# Altium schematic symbol library arthurbenemann-Atmel.SchLib: 651 symbols (part 1 of 28)
Pins are listed as number, name and electrical type; pins without a type are passive.

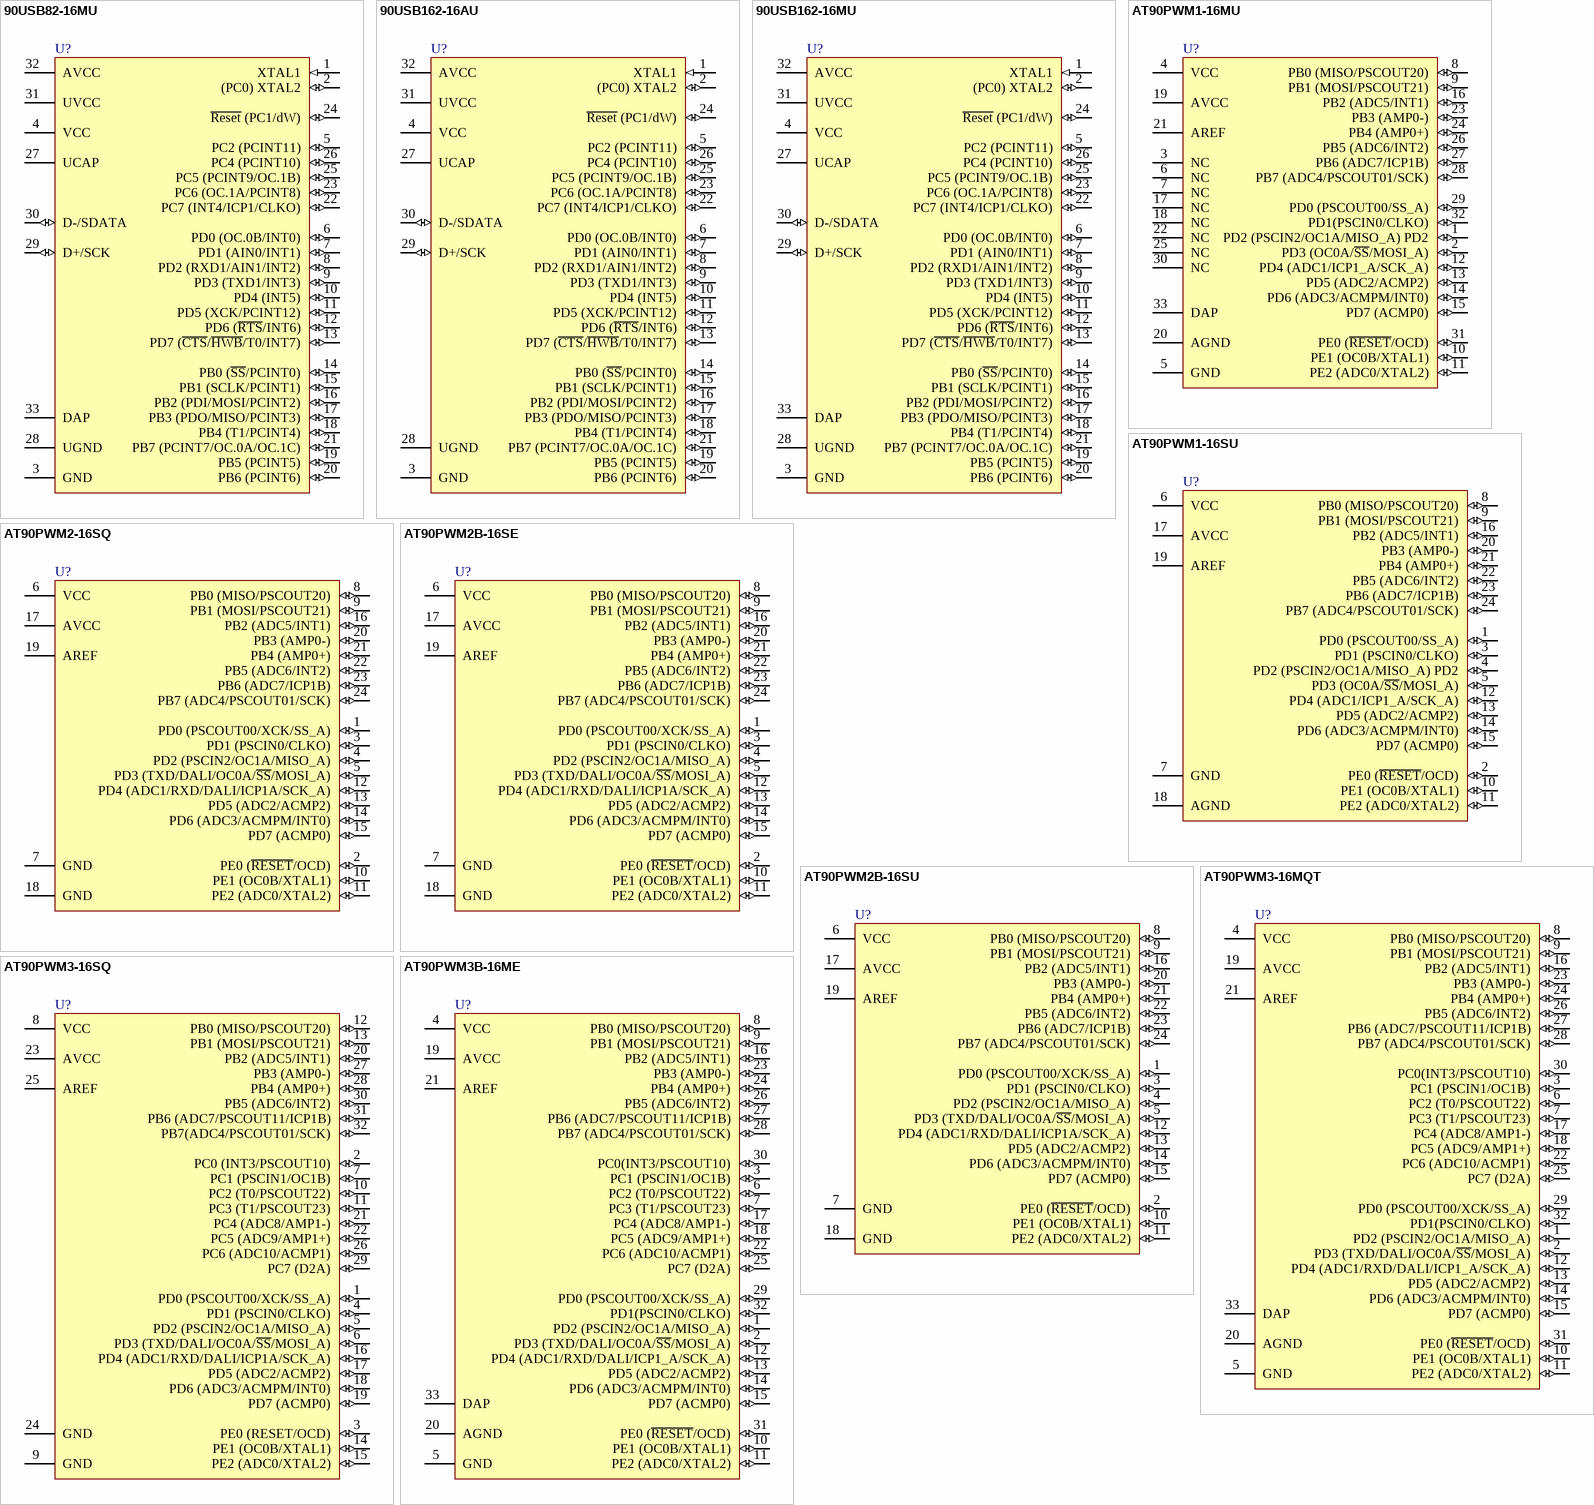
[diagram p0: symbols 90USB82-16MU to AT90PWM3B-16ME]

## 90USB82-16MU
designator U?
8-bit AVR Microcontroller, 2.7-5.5V, 8KB Flash, 512 Bytes EEPROM, 512 Bytes SRAM, USB Controller, 32-pin VQFN, Industrial Grade (-40°C to 85°C); DatasheetVersion: revF, Nov-2010; PackageVersion: 2007; PackageReference: 32-QFN; PackageDescription: 32-Pin Quad Flat No-Lead, 5 x 5 mm Body,  0.5 mm Pitch; ComponentLink1Description: Manufacturer URL; ComponentLink1URL: http://www.atmel.com/; ComponentLink2Description: AT90USB82/162 Datasheet; ComponentLink2URL: http://www.atmel.com/dyn/resources/prod_documents/doc7707.pdf
footprint 32-QFN_N (QFN, 32-Leads, Body 5x5mm, Pitch 0.5mm, Thermal Pad 3.7x3.7mm, IPC Medium Density)
footprint 32-QFN_L (QFN, 32-Leads, Body 5x5mm, Pitch 0.5mm, Thermal Pad 3.7x3.7mm, IPC High Density)
footprint 32-QFN_M (QFN, 32-Leads, Body 5x5mm, Pitch 0.5mm, Thermal Pad 3.7x3.7mm, IPC Low Density)
pins: 1 XTAL1 (in), 2 (PC0) XTAL2 (io), 3 GND (power), 4 VCC (power), 5 PC2 (PCINT11) (io), 6 PD0 (OC.0B/INT0) (io), 7 PD1 (AIN0/INT1) (io), 8 PD2 (RXD1/AIN1/INT2) (io), 9 PD3 (TXD1/INT3) (io), 10 PD4 (INT5) (io), 11 PD5 (XCK/PCINT12) (io), 12 PD6 (~{RTS}/INT6) (io), 13 PD7 (~{CTS}/~{HWB}/T0/INT7) (io), 14 PB0 (~{SS}/PCINT0) (io), 15 PB1 (SCLK/PCINT1) (io), 16 PB2 (PDI/MOSI/PCINT2) (io), 17 PB3 (PDO/MISO/PCINT3) (io), 18 PB4 (T1/PCINT4) (io), 19 PB5 (PCINT5) (io), 20 PB6 (PCINT6) (io), 21 PB7 (PCINT7/OC.0A/OC.1C) (io), 22 PC7 (INT4/ICP1/CLKO) (io), 23 PC6 (OC.1A/PCINT8) (io), 24 ~{Reset} (PC1/dW) (io), 25 PC5 (PCINT9/OC.1B) (io), 26 PC4 (PCINT10) (io), 27 UCAP (power), 28 UGND (power), 29 D+/SCK (io), 30 D-/SDATA (io), 31 UVCC (power), 32 AVCC (power), 33 DAP (power)

## 90USB162-16AU
designator U?
8-bit AVR Microcontroller, 2.7-5.5V, 16KB Flash, 512 Bytes EEPROM, 512 Bytes SRAM, USB Controller, 32-pin TQFP, Industrial Grade (-40°C to 85°C); DatasheetVersion: revF, Nov-2010; PackageVersion: revB, Jul-2007; PackageReference: 32MA; PackageDescription: 32-Lead Thin Profile Plastic Quad Flatpack (TQFP) - 7x7x1mm Body,  0.8 mm Pitch; ComponentLink1Description: Manufacturer URL; ComponentLink1URL: http://www.atmel.com/; ComponentLink2Description: AT90USB82/162 Datasheet; ComponentLink2URL: http://www.atmel.com/dyn/resources/prod_documents/doc7707.pdf
footprint 32MA_N (Thin QFP, 32-Leads, Body 7x7mm, Pitch 0.8mm, IPC Medium Density)
footprint 32MA_L (Thin QFP, 32-Leads, Body 7x7mm, Pitch 0.8mm, IPC High Density)
footprint 32MA_M (Thin QFP, 32-Leads, Body 7x7mm, Pitch 0.8mm, IPC Low Density)
pins: 1 XTAL1 (in), 2 (PC0) XTAL2 (io), 3 GND (power), 4 VCC (power), 5 PC2 (PCINT11) (io), 6 PD0 (OC.0B/INT0) (io), 7 PD1 (AIN0/INT1) (io), 8 PD2 (RXD1/AIN1/INT2) (io), 9 PD3 (TXD1/INT3) (io), 10 PD4 (INT5) (io), 11 PD5 (XCK/PCINT12) (io), 12 PD6 (~{RTS}/INT6) (io), 13 PD7 (~{CTS}/~{HWB}/T0/INT7) (io), 14 PB0 (~{SS}/PCINT0) (io), 15 PB1 (SCLK/PCINT1) (io), 16 PB2 (PDI/MOSI/PCINT2) (io), 17 PB3 (PDO/MISO/PCINT3) (io), 18 PB4 (T1/PCINT4) (io), 19 PB5 (PCINT5) (io), 20 PB6 (PCINT6) (io), 21 PB7 (PCINT7/OC.0A/OC.1C) (io), 22 PC7 (INT4/ICP1/CLKO) (io), 23 PC6 (OC.1A/PCINT8) (io), 24 ~{Reset} (PC1/dW) (io), 25 PC5 (PCINT9/OC.1B) (io), 26 PC4 (PCINT10) (io), 27 UCAP (power), 28 UGND (power), 29 D+/SCK (io), 30 D-/SDATA (io), 31 UVCC (power), 32 AVCC (power)

## 90USB162-16MU
designator U?
8-bit AVR Microcontroller, 2.7-5.5V, 16KB Flash, 512 Bytes EEPROM, 512 Bytes SRAM, USB Controller, 32-pin VQFN, Industrial Grade (-40°C to 85°C); DatasheetVersion: revF, Nov-2010; PackageVersion: 2007; PackageReference: 32-QFN; PackageDescription: 32-Pin Quad Flat No-Lead, 5 x 5 mm Body,  0.5 mm Pitch; ComponentLink1Description: Manufacturer URL; ComponentLink1URL: http://www.atmel.com/; ComponentLink2Description: AT90USB82/162 Datasheet; ComponentLink2URL: http://www.atmel.com/dyn/resources/prod_documents/doc7707.pdf
footprint 32-QFN_N (QFN, 32-Leads, Body 5x5mm, Pitch 0.5mm, Thermal Pad 3.7x3.7mm, IPC Medium Density)
footprint 32-QFN_L (QFN, 32-Leads, Body 5x5mm, Pitch 0.5mm, Thermal Pad 3.7x3.7mm, IPC High Density)
footprint 32-QFN_M (QFN, 32-Leads, Body 5x5mm, Pitch 0.5mm, Thermal Pad 3.7x3.7mm, IPC Low Density)
pins: 1 XTAL1 (in), 2 (PC0) XTAL2 (io), 3 GND (power), 4 VCC (power), 5 PC2 (PCINT11) (io), 6 PD0 (OC.0B/INT0) (io), 7 PD1 (AIN0/INT1) (io), 8 PD2 (RXD1/AIN1/INT2) (io), 9 PD3 (TXD1/INT3) (io), 10 PD4 (INT5) (io), 11 PD5 (XCK/PCINT12) (io), 12 PD6 (~{RTS}/INT6) (io), 13 PD7 (~{CTS}/~{HWB}/T0/INT7) (io), 14 PB0 (~{SS}/PCINT0) (io), 15 PB1 (SCLK/PCINT1) (io), 16 PB2 (PDI/MOSI/PCINT2) (io), 17 PB3 (PDO/MISO/PCINT3) (io), 18 PB4 (T1/PCINT4) (io), 19 PB5 (PCINT5) (io), 20 PB6 (PCINT6) (io), 21 PB7 (PCINT7/OC.0A/OC.1C) (io), 22 PC7 (INT4/ICP1/CLKO) (io), 23 PC6 (OC.1A/PCINT8) (io), 24 ~{Reset} (PC1/dW) (io), 25 PC5 (PCINT9/OC.1B) (io), 26 PC4 (PCINT10) (io), 27 UCAP (power), 28 UGND (power), 29 D+/SCK (io), 30 D-/SDATA (io), 31 UVCC (power), 32 AVCC (power), 33 DAP (power)

## AT90PWM1-16MU
designator U?
8-bit AVR Microcontroller, 2.7-5.5V, 8KB Flash, 512 Bytes EEPROM, 512 Bytes SRAM, 32-pin QFN, Extended Grade (-40°C to 105°C), Pb-Free; DatasheetVersion: revC, Sep-2008; PackageVersion: 2011; PackageReference: QFN32; PackageDescription: 32-Pin Quad Flat No-Lead, 7 x 7 mm Body, 0.65 mm Pitch; Code_JEDEC: MO-220VKKC; Code_IPC: QFN65P700X700-32V; ComponentLink1Description: Manufacturer URL; ComponentLink1URL: http://www.atmel.com/; ComponentLink2Description: AT90PWM1 Datasheet; ComponentLink2URL: http://www.atmel.com/dyn/resources/prod_documents/doc4378.pdf; ComponentLink3Description: AT90PWM1 Summary; ComponentLink3URL: http://www.atmel.com/dyn/resources/prod_documents/4378S.pdf
footprint QFN32_N (QFN, 32-Leads, Body 7x7mm, Pitch 0.65mm, Thermal Pad 5.3x5.3mm, IPC Medium Density)
footprint QFN32_L (QFN, 32-Leads, Body 7x7mm, Pitch 0.65mm, Thermal Pad 5.3x5.3mm, IPC High Density)
footprint QFN32_M (QFN, 32-Leads, Body 7x7mm, Pitch 0.65mm, Thermal Pad 5.3x5.3mm, IPC Low Density)
pins: 1 PD2 (PSCIN2/OC1A/MISO_A) PD2 (io), 2 PD3 (OC0A/~{SS}/MOSI_A) (io), 3 NC, 4 VCC (power), 5 GND (power), 6 NC, 7 NC, 8 PB0 (MISO/PSCOUT20) (io), 9 PB1 (MOSI/PSCOUT21) (io), 10 PE1 (OC0B/XTAL1) (io), 11 PE2 (ADC0/XTAL2) (io), 12 PD4 (ADC1/ICP1_A/SCK_A) (io), 13 PD5 (ADC2/ACMP2) (io), 14 PD6 (ADC3/ACMPM/INT0) (io), 15 PD7 (ACMP0) (io), 16 PB2 (ADC5/INT1) (io), 17 NC, 18 NC, 19 AVCC (power), 20 AGND (power), 21 AREF (power), 22 NC, 23 PB3 (AMP0-) (io), 24 PB4 (AMP0+) (io), 25 NC, 26 PB5 (ADC6/INT2) (io), 27 PB6 (ADC7/ICP1B) (io), 28 PB7 (ADC4/PSCOUT01/SCK) (io), 29 PD0 (PSCOUT00/SS_A) (io), 30 NC, 31 PE0 (~{RESET}/OCD) (io), 32 PD1(PSCIN0/CLKO) (io), 33 DAP (power)

## AT90PWM1-16SU
designator U?
8-bit AVR Microcontroller, 2.7-5.5V, 8KB Flash, 512 Bytes EEPROM, 512 Bytes SRAM, 24-pin SOIC (TD), Extended Grade (-40°C to 105°C), Pb-Free; DatasheetVersion: revC, Sep-2008; PackageVersion: revA, Jul-2007; PackageReference: SO24; PackageDescription: 24-Pin Plastic Gull Wing Small Outline Package (SOIC) 0.3" Wide, 1.27 mm Pitch [TD]; ComponentLink1Description: Manufacturer URL; ComponentLink1URL: http://www.atmel.com/; ComponentLink2Description: AT90PWM1 Datasheet; ComponentLink2URL: http://www.atmel.com/dyn/resources/prod_documents/doc4378.pdf; ComponentLink3Description: AT90PWM1 Summary; ComponentLink3URL: http://www.atmel.com/dyn/resources/prod_documents/4378S.pdf
footprint SO24_N (SOIC, 24-Leads, Body 15.4x7.5mm, Pitch 1.27mm, IPC Medium Density)
footprint SO24_L (SOIC, 24-Leads, Body 15.4x7.5mm, Pitch 1.27mm, IPC High Density)
footprint SO24_M (SOIC, 24-Leads, Body 15.4x7.5mm, Pitch 1.27mm, IPC Low Density)
pins: 1 PD0 (PSCOUT00/SS_A) (io), 2 PE0 (~{RESET}/OCD) (io), 3 PD1 (PSCIN0/CLKO) (io), 4 PD2 (PSCIN2/OC1A/MISO_A) PD2 (io), 5 PD3 (OC0A/~{SS}/MOSI_A) (io), 6 VCC (power), 7 GND (power), 8 PB0 (MISO/PSCOUT20) (io), 9 PB1 (MOSI/PSCOUT21) (io), 10 PE1 (OC0B/XTAL1) (io), 11 PE2 (ADC0/XTAL2) (io), 12 PD4 (ADC1/ICP1_A/SCK_A) (io), 13 PD5 (ADC2/ACMP2) (io), 14 PD6 (ADC3/ACMPM/INT0) (io), 15 PD7 (ACMP0) (io), 16 PB2 (ADC5/INT1) (io), 17 AVCC (power), 18 AGND (power), 19 AREF (power), 20 PB3 (AMP0-) (io), 21 PB4 (AMP0+) (io), 22 PB5 (ADC6/INT2) (io), 23 PB6 (ADC7/ICP1B) (io), 24 PB7 (ADC4/PSCOUT01/SCK) (io)

## AT90PWM2-16SQ
designator U?
8-bit AVR Microcontroller, 8KB Flash, 512 Bytes EEPROM, 512 Bytes SRAM, 24-pin SOP, Extended Grade (-40°C to 105°C); DatasheetVersion: revJ, Aug-2010; PackageVersion: revA, Jul-2007; PackageReference: SO24; PackageDescription: 24-Pin Plastic Gull Wing Small Outline Package (SOIC) 0.3" Wide, 1.27 mm Pitch [TD]; ComponentLink1Description: Manufacturer URL; ComponentLink1URL: http://www.atmel.com/; ComponentLink2Description: AT90PWM2/2B/3/3B Datasheet; ComponentLink2URL: http://www.atmel.com/dyn/resources/prod_documents/doc4317.pdf; ComponentLink3Description: AT90PWM2/2B/3/3B Summary; ComponentLink3URL: http://www.atmel.com/dyn/resources/prod_documents/4317S.pdf
footprint SO24_N (SOIC, 24-Leads, Body 15.4x7.5mm, Pitch 1.27mm, IPC Medium Density)
footprint SO24_L (SOIC, 24-Leads, Body 15.4x7.5mm, Pitch 1.27mm, IPC High Density)
footprint SO24_M (SOIC, 24-Leads, Body 15.4x7.5mm, Pitch 1.27mm, IPC Low Density)
pins: 1 PD0 (PSCOUT00/XCK/SS_A) (io), 2 PE0 (~{RESET}/OCD) (io), 3 PD1 (PSCIN0/CLKO) (io), 4 PD2 (PSCIN2/OC1A/MISO_A) (io), 5 PD3 (TXD/DALI/OC0A/~{SS}/MOSI_A) (io), 6 VCC (power), 7 GND (power), 8 PB0 (MISO/PSCOUT20) (io), 9 PB1 (MOSI/PSCOUT21) (io), 10 PE1 (OC0B/XTAL1) (io), 11 PE2 (ADC0/XTAL2) (io), 12 PD4 (ADC1/RXD/DALI/ICP1A/SCK_A) (io), 13 PD5 (ADC2/ACMP2) (io), 14 PD6 (ADC3/ACMPM/INT0) (io), 15 PD7 (ACMP0) (io), 16 PB2 (ADC5/INT1) (io), 17 AVCC (power), 18 GND (power), 19 AREF (power), 20 PB3 (AMP0-) (io), 21 PB4 (AMP0+) (io), 22 PB5 (ADC6/INT2) (io), 23 PB6 (ADC7/ICP1B) (io), 24 PB7 (ADC4/PSCOUT01/SCK) (io)

## AT90PWM2B-16SE
designator U?
8-bit AVR Microcontroller, 8KB Flash, 512 Bytes EEPROM, 512 Bytes SRAM, 24-pin SOP, Engineering Sample; DatasheetVersion: revJ, Aug-2010; PackageVersion: revA, Jul-2007; PackageReference: SO24; PackageDescription: 24-Pin Plastic Gull Wing Small Outline Package (SOIC) 0.3" Wide, 1.27 mm Pitch [TD]; ComponentLink1Description: Manufacturer URL; ComponentLink1URL: http://www.atmel.com/; ComponentLink2Description: AT90PWM2/2B/3/3B Datasheet; ComponentLink2URL: http://www.atmel.com/dyn/resources/prod_documents/doc4317.pdf; ComponentLink3Description: AT90PWM2/2B/3/3B Summary; ComponentLink3URL: http://www.atmel.com/dyn/resources/prod_documents/4317S.pdf
footprint SO24_N (SOIC, 24-Leads, Body 15.4x7.5mm, Pitch 1.27mm, IPC Medium Density)
footprint SO24_L (SOIC, 24-Leads, Body 15.4x7.5mm, Pitch 1.27mm, IPC High Density)
footprint SO24_M (SOIC, 24-Leads, Body 15.4x7.5mm, Pitch 1.27mm, IPC Low Density)
pins: 1 PD0 (PSCOUT00/XCK/SS_A) (io), 2 PE0 (~{RESET}/OCD) (io), 3 PD1 (PSCIN0/CLKO) (io), 4 PD2 (PSCIN2/OC1A/MISO_A) (io), 5 PD3 (TXD/DALI/OC0A/~{SS}/MOSI_A) (io), 6 VCC (power), 7 GND (power), 8 PB0 (MISO/PSCOUT20) (io), 9 PB1 (MOSI/PSCOUT21) (io), 10 PE1 (OC0B/XTAL1) (io), 11 PE2 (ADC0/XTAL2) (io), 12 PD4 (ADC1/RXD/DALI/ICP1A/SCK_A) (io), 13 PD5 (ADC2/ACMP2) (io), 14 PD6 (ADC3/ACMPM/INT0) (io), 15 PD7 (ACMP0) (io), 16 PB2 (ADC5/INT1) (io), 17 AVCC (power), 18 GND (power), 19 AREF (power), 20 PB3 (AMP0-) (io), 21 PB4 (AMP0+) (io), 22 PB5 (ADC6/INT2) (io), 23 PB6 (ADC7/ICP1B) (io), 24 PB7 (ADC4/PSCOUT01/SCK) (io)

## AT90PWM2B-16SU
designator U?
8-bit AVR Microcontroller, 8KB Flash, 512 Bytes EEPROM, 512 Bytes SRAM, 24-pin SOP, Extended Grade (-40°C to 105°C); DatasheetVersion: revJ, Aug-2010; PackageVersion: revA, Jul-2007; PackageReference: SO24; PackageDescription: 24-Pin Plastic Gull Wing Small Outline Package (SOIC) 0.3" Wide, 1.27 mm Pitch [TD]; ComponentLink1Description: Manufacturer URL; ComponentLink1URL: http://www.atmel.com/; ComponentLink2Description: AT90PWM2/2B/3/3B Datasheet; ComponentLink2URL: http://www.atmel.com/dyn/resources/prod_documents/doc4317.pdf; ComponentLink3Description: AT90PWM2/2B/3/3B Summary; ComponentLink3URL: http://www.atmel.com/dyn/resources/prod_documents/4317S.pdf
footprint SO24_N (SOIC, 24-Leads, Body 15.4x7.5mm, Pitch 1.27mm, IPC Medium Density)
footprint SO24_L (SOIC, 24-Leads, Body 15.4x7.5mm, Pitch 1.27mm, IPC High Density)
footprint SO24_M (SOIC, 24-Leads, Body 15.4x7.5mm, Pitch 1.27mm, IPC Low Density)
pins: 1 PD0 (PSCOUT00/XCK/SS_A) (io), 2 PE0 (~{RESET}/OCD) (io), 3 PD1 (PSCIN0/CLKO) (io), 4 PD2 (PSCIN2/OC1A/MISO_A) (io), 5 PD3 (TXD/DALI/OC0A/~{SS}/MOSI_A) (io), 6 VCC (power), 7 GND (power), 8 PB0 (MISO/PSCOUT20) (io), 9 PB1 (MOSI/PSCOUT21) (io), 10 PE1 (OC0B/XTAL1) (io), 11 PE2 (ADC0/XTAL2) (io), 12 PD4 (ADC1/RXD/DALI/ICP1A/SCK_A) (io), 13 PD5 (ADC2/ACMP2) (io), 14 PD6 (ADC3/ACMPM/INT0) (io), 15 PD7 (ACMP0) (io), 16 PB2 (ADC5/INT1) (io), 17 AVCC (power), 18 GND (power), 19 AREF (power), 20 PB3 (AMP0-) (io), 21 PB4 (AMP0+) (io), 22 PB5 (ADC6/INT2) (io), 23 PB6 (ADC7/ICP1B) (io), 24 PB7 (ADC4/PSCOUT01/SCK) (io)

## AT90PWM3-16MQT
designator U?
8-bit AVR Microcontroller, 8KB Flash, 512 Bytes EEPROM, 512 Bytes SRAM, 32-pin QFN, Extended Grade (-40°C to 105°C); DatasheetVersion: revJ, Aug-2010; PackageVersion: 2011; PackageReference: QFN32; PackageDescription: 32-Pin Quad Flat No-Lead, 7 x 7 mm Body, 0.65 mm Pitch; Code_JEDEC: MO-220VKKC; Code_IPC: QFN65P700X700-32V; ComponentLink1Description: Manufacturer URL; ComponentLink1URL: http://www.atmel.com/; ComponentLink2Description: AT90PWM2/2B/3/3B Datasheet; ComponentLink2URL: http://www.atmel.com/dyn/resources/prod_documents/doc4317.pdf; ComponentLink3Description: AT90PWM2/2B/3/3B Summary; ComponentLink3URL: http://www.atmel.com/dyn/resources/prod_documents/4317S.pdf
footprint QFN32_N (QFN, 32-Leads, Body 7x7mm, Pitch 0.65mm, Thermal Pad 5.3x5.3mm, IPC Medium Density)
footprint QFN32_L (QFN, 32-Leads, Body 7x7mm, Pitch 0.65mm, Thermal Pad 5.3x5.3mm, IPC High Density)
footprint QFN32_M (QFN, 32-Leads, Body 7x7mm, Pitch 0.65mm, Thermal Pad 5.3x5.3mm, IPC Low Density)
pins: 1 PD2 (PSCIN2/OC1A/MISO_A) (io), 2 PD3 (TXD/DALI/OC0A/~{SS}/MOSI_A) (io), 3 PC1 (PSCIN1/OC1B) (io), 4 VCC (power), 5 GND (power), 6 PC2 (T0/PSCOUT22) (io), 7 PC3 (T1/PSCOUT23) (io), 8 PB0 (MISO/PSCOUT20) (io), 9 PB1 (MOSI/PSCOUT21) (io), 10 PE1 (OC0B/XTAL1) (io), 11 PE2 (ADC0/XTAL2) (io), 12 PD4 (ADC1/RXD/DALI/ICP1_A/SCK_A) (io), 13 PD5 (ADC2/ACMP2) (io), 14 PD6 (ADC3/ACMPM/INT0) (io), 15 PD7 (ACMP0) (io), 16 PB2 (ADC5/INT1) (io), 17 PC4 (ADC8/AMP1-) (io), 18 PC5 (ADC9/AMP1+) (io), 19 AVCC (power), 20 AGND (power), 21 AREF (power), 22 PC6 (ADC10/ACMP1) (io), 23 PB3 (AMP0-) (io), 24 PB4 (AMP0+) (io), 25 PC7 (D2A) (io), 26 PB5 (ADC6/INT2) (io), 27 PB6 (ADC7/PSCOUT11/ICP1B) (io), 28 PB7 (ADC4/PSCOUT01/SCK) (io), 29 PD0 (PSCOUT00/XCK/SS_A) (io), 30 PC0(INT3/PSCOUT10) (io), 31 PE0 (~{RESET}/OCD) (io), 32 PD1(PSCIN0/CLKO) (io), 33 DAP (power)

## AT90PWM3-16SQ
designator U?
8-bit AVR Microcontroller, 8KB Flash, 512 Bytes EEPROM, 512 Bytes SRAM, 32-pin SOP, Extended Grade (-40°C to 105°C); DatasheetVersion: revJ, Aug-2010; PackageVersion: revA, Jul-2007; PackageReference: SO32; PackageDescription: 32-Pin Plastic Gull Wing Small Outline Package (SOIC) 0.3" Wide, 1.27 mm Pitch [T4]; Code_IPC: IPC-7353; ComponentLink1Description: Manufacturer URL; ComponentLink1URL: http://www.atmel.com/; ComponentLink2Description: AT90PWM2/2B/3/3B Datasheet; ComponentLink2URL: http://www.atmel.com/dyn/resources/prod_documents/doc4317.pdf; ComponentLink3Description: AT90PWM2/2B/3/3B Summary; ComponentLink3URL: http://www.atmel.com/dyn/resources/prod_documents/4317S.pdf
footprint SO32_N (SOIC, 32-Leads, Body 20.8x7.5mm, Pitch 1.27mm, IPC Medium Density)
footprint SO32_L (SOIC, 32-Leads, Body 20.8x7.5mm, Pitch 1.27mm, IPC High Density)
footprint SO32_M (SOIC, 32-Leads, Body 20.8x7.5mm, Pitch 1.27mm, IPC Low Density)
pins: 1 PD0 (PSCOUT00/XCK/SS_A) (io), 2 PC0 (INT3/PSCOUT10) (io), 3 PE0 (RESET/OCD) (io), 4 PD1 (PSCIN0/CLKO) (io), 5 PD2 (PSCIN2/OC1A/MISO_A) (io), 6 PD3 (TXD/DALI/OC0A/~{SS}/MOSI_A) (io), 7 PC1 (PSCIN1/OC1B) (io), 8 VCC (power), 9 GND (power), 10 PC2 (T0/PSCOUT22) (io), 11 PC3 (T1/PSCOUT23) (io), 12 PB0 (MISO/PSCOUT20) (io), 13 PB1 (MOSI/PSCOUT21) (io), 14 PE1 (OC0B/XTAL1) (io), 15 PE2 (ADC0/XTAL2) (io), 16 PD4 (ADC1/RXD/DALI/ICP1A/SCK_A) (io), 17 PD5 (ADC2/ACMP2) (io), 18 PD6 (ADC3/ACMPM/INT0) (io), 19 PD7 (ACMP0) (io), 20 PB2 (ADC5/INT1) (io), 21 PC4 (ADC8/AMP1-) (io), 22 PC5 (ADC9/AMP1+) (io), 23 AVCC (power), 24 GND (power), 25 AREF (power), 26 PC6 (ADC10/ACMP1) (io), 27 PB3 (AMP0-) (io), 28 PB4 (AMP0+) (io), 29 PC7 (D2A) (io), 30 PB5 (ADC6/INT2) (io), 31 PB6 (ADC7/PSCOUT11/ICP1B) (io), 32 PB7(ADC4/PSCOUT01/SCK) (io)

## AT90PWM3B-16ME
designator U?
8-bit AVR Microcontroller, 8KB Flash, 512 Bytes EEPROM, 512 Bytes SRAM, 32-pin QFN, Engineering Sample; DatasheetVersion: revJ, Aug-2010; PackageVersion: 2011; PackageReference: QFN32; PackageDescription: 32-Pin Quad Flat No-Lead, 7 x 7 mm Body, 0.65 mm Pitch; Code_JEDEC: MO-220VKKC; Code_IPC: QFN65P700X700-32V; ComponentLink1Description: Manufacturer URL; ComponentLink1URL: http://www.atmel.com/; ComponentLink2Description: AT90PWM2/2B/3/3B Datasheet; ComponentLink2URL: http://www.atmel.com/dyn/resources/prod_documents/doc4317.pdf; ComponentLink3Description: AT90PWM2/2B/3/3B Summary; ComponentLink3URL: http://www.atmel.com/dyn/resources/prod_documents/4317S.pdf
footprint QFN32_N (QFN, 32-Leads, Body 7x7mm, Pitch 0.65mm, Thermal Pad 5.3x5.3mm, IPC Medium Density)
footprint QFN32_L (QFN, 32-Leads, Body 7x7mm, Pitch 0.65mm, Thermal Pad 5.3x5.3mm, IPC High Density)
footprint QFN32_M (QFN, 32-Leads, Body 7x7mm, Pitch 0.65mm, Thermal Pad 5.3x5.3mm, IPC Low Density)
pins: 1 PD2 (PSCIN2/OC1A/MISO_A) (io), 2 PD3 (TXD/DALI/OC0A/~{SS}/MOSI_A) (io), 3 PC1 (PSCIN1/OC1B) (io), 4 VCC (power), 5 GND (power), 6 PC2 (T0/PSCOUT22) (io), 7 PC3 (T1/PSCOUT23) (io), 8 PB0 (MISO/PSCOUT20) (io), 9 PB1 (MOSI/PSCOUT21) (io), 10 PE1 (OC0B/XTAL1) (io), 11 PE2 (ADC0/XTAL2) (io), 12 PD4 (ADC1/RXD/DALI/ICP1_A/SCK_A) (io), 13 PD5 (ADC2/ACMP2) (io), 14 PD6 (ADC3/ACMPM/INT0) (io), 15 PD7 (ACMP0) (io), 16 PB2 (ADC5/INT1) (io), 17 PC4 (ADC8/AMP1-) (io), 18 PC5 (ADC9/AMP1+) (io), 19 AVCC (power), 20 AGND (power), 21 AREF (power), 22 PC6 (ADC10/ACMP1) (io), 23 PB3 (AMP0-) (io), 24 PB4 (AMP0+) (io), 25 PC7 (D2A) (io), 26 PB5 (ADC6/INT2) (io), 27 PB6 (ADC7/PSCOUT11/ICP1B) (io), 28 PB7 (ADC4/PSCOUT01/SCK) (io), 29 PD0 (PSCOUT00/XCK/SS_A) (io), 30 PC0(INT3/PSCOUT10) (io), 31 PE0 (~{RESET}/OCD) (io), 32 PD1(PSCIN0/CLKO) (io), 33 DAP (power)

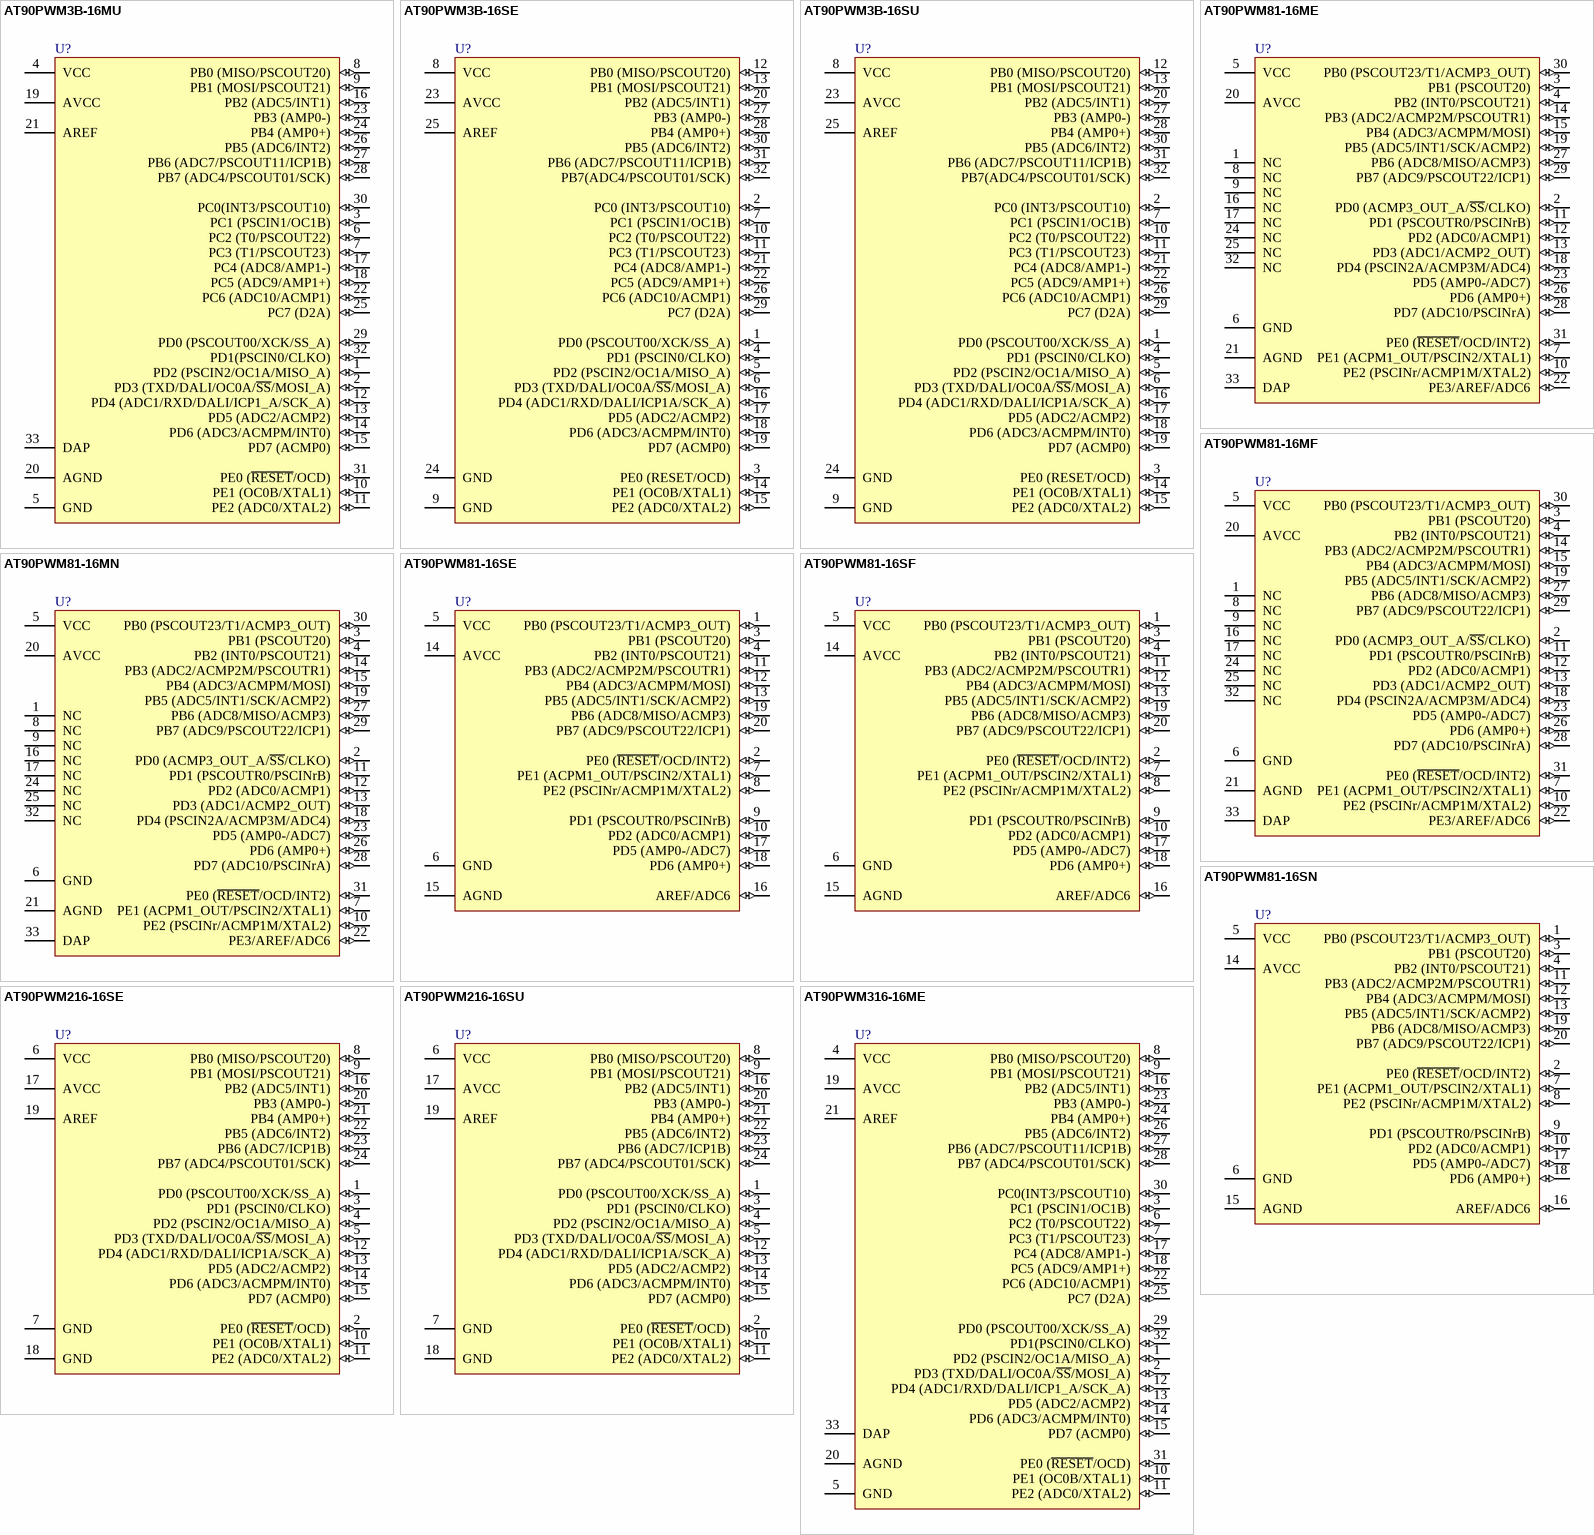
[diagram p1: symbols AT90PWM3B-16MU to AT90PWM316-16ME]

## AT90PWM3B-16MU
designator U?
8-bit AVR Microcontroller, 8KB Flash, 512 Bytes EEPROM, 512 Bytes SRAM, 32-pin QFN, Extended Grade (-40°C to 105°C); DatasheetVersion: revJ, Aug-2010; PackageVersion: 2011; PackageReference: QFN32; PackageDescription: 32-Pin Quad Flat No-Lead, 7 x 7 mm Body, 0.65 mm Pitch; Code_JEDEC: MO-220VKKC; Code_IPC: QFN65P700X700-32V; ComponentLink1Description: Manufacturer URL; ComponentLink1URL: http://www.atmel.com/; ComponentLink2Description: AT90PWM2/2B/3/3B Datasheet; ComponentLink2URL: http://www.atmel.com/dyn/resources/prod_documents/doc4317.pdf; ComponentLink3Description: AT90PWM2/2B/3/3B Summary; ComponentLink3URL: http://www.atmel.com/dyn/resources/prod_documents/4317S.pdf
footprint QFN32_N (QFN, 32-Leads, Body 7x7mm, Pitch 0.65mm, Thermal Pad 5.3x5.3mm, IPC Medium Density)
footprint QFN32_L (QFN, 32-Leads, Body 7x7mm, Pitch 0.65mm, Thermal Pad 5.3x5.3mm, IPC High Density)
footprint QFN32_M (QFN, 32-Leads, Body 7x7mm, Pitch 0.65mm, Thermal Pad 5.3x5.3mm, IPC Low Density)
pins: 1 PD2 (PSCIN2/OC1A/MISO_A) (io), 2 PD3 (TXD/DALI/OC0A/~{SS}/MOSI_A) (io), 3 PC1 (PSCIN1/OC1B) (io), 4 VCC (power), 5 GND (power), 6 PC2 (T0/PSCOUT22) (io), 7 PC3 (T1/PSCOUT23) (io), 8 PB0 (MISO/PSCOUT20) (io), 9 PB1 (MOSI/PSCOUT21) (io), 10 PE1 (OC0B/XTAL1) (io), 11 PE2 (ADC0/XTAL2) (io), 12 PD4 (ADC1/RXD/DALI/ICP1_A/SCK_A) (io), 13 PD5 (ADC2/ACMP2) (io), 14 PD6 (ADC3/ACMPM/INT0) (io), 15 PD7 (ACMP0) (io), 16 PB2 (ADC5/INT1) (io), 17 PC4 (ADC8/AMP1-) (io), 18 PC5 (ADC9/AMP1+) (io), 19 AVCC (power), 20 AGND (power), 21 AREF (power), 22 PC6 (ADC10/ACMP1) (io), 23 PB3 (AMP0-) (io), 24 PB4 (AMP0+) (io), 25 PC7 (D2A) (io), 26 PB5 (ADC6/INT2) (io), 27 PB6 (ADC7/PSCOUT11/ICP1B) (io), 28 PB7 (ADC4/PSCOUT01/SCK) (io), 29 PD0 (PSCOUT00/XCK/SS_A) (io), 30 PC0(INT3/PSCOUT10) (io), 31 PE0 (~{RESET}/OCD) (io), 32 PD1(PSCIN0/CLKO) (io), 33 DAP (power)

## AT90PWM3B-16SE
designator U?
8-bit AVR Microcontroller, 8KB Flash, 512 Bytes EEPROM, 512 Bytes SRAM, 32-pin SOP, Engineering Sample; DatasheetVersion: revJ, Aug-2010; PackageVersion: revA, Jul-2007; PackageReference: SO32; PackageDescription: 32-Pin Plastic Gull Wing Small Outline Package (SOIC) 0.3" Wide, 1.27 mm Pitch [T4]; Code_IPC: IPC-7353; ComponentLink1Description: Manufacturer URL; ComponentLink1URL: http://www.atmel.com/; ComponentLink2Description: AT90PWM2/2B/3/3B Datasheet; ComponentLink2URL: http://www.atmel.com/dyn/resources/prod_documents/doc4317.pdf; ComponentLink3Description: AT90PWM2/2B/3/3B Summary; ComponentLink3URL: http://www.atmel.com/dyn/resources/prod_documents/4317S.pdf
footprint SO32_N (SOIC, 32-Leads, Body 20.8x7.5mm, Pitch 1.27mm, IPC Medium Density)
footprint SO32_L (SOIC, 32-Leads, Body 20.8x7.5mm, Pitch 1.27mm, IPC High Density)
footprint SO32_M (SOIC, 32-Leads, Body 20.8x7.5mm, Pitch 1.27mm, IPC Low Density)
pins: 1 PD0 (PSCOUT00/XCK/SS_A) (io), 2 PC0 (INT3/PSCOUT10) (io), 3 PE0 (RESET/OCD) (io), 4 PD1 (PSCIN0/CLKO) (io), 5 PD2 (PSCIN2/OC1A/MISO_A) (io), 6 PD3 (TXD/DALI/OC0A/~{SS}/MOSI_A) (io), 7 PC1 (PSCIN1/OC1B) (io), 8 VCC (power), 9 GND (power), 10 PC2 (T0/PSCOUT22) (io), 11 PC3 (T1/PSCOUT23) (io), 12 PB0 (MISO/PSCOUT20) (io), 13 PB1 (MOSI/PSCOUT21) (io), 14 PE1 (OC0B/XTAL1) (io), 15 PE2 (ADC0/XTAL2) (io), 16 PD4 (ADC1/RXD/DALI/ICP1A/SCK_A) (io), 17 PD5 (ADC2/ACMP2) (io), 18 PD6 (ADC3/ACMPM/INT0) (io), 19 PD7 (ACMP0) (io), 20 PB2 (ADC5/INT1) (io), 21 PC4 (ADC8/AMP1-) (io), 22 PC5 (ADC9/AMP1+) (io), 23 AVCC (power), 24 GND (power), 25 AREF (power), 26 PC6 (ADC10/ACMP1) (io), 27 PB3 (AMP0-) (io), 28 PB4 (AMP0+) (io), 29 PC7 (D2A) (io), 30 PB5 (ADC6/INT2) (io), 31 PB6 (ADC7/PSCOUT11/ICP1B) (io), 32 PB7(ADC4/PSCOUT01/SCK) (io)

## AT90PWM3B-16SU
designator U?
8-bit AVR Microcontroller, 8KB Flash, 512 Bytes EEPROM, 512 Bytes SRAM, 32-pin SOP, Extended Grade (-40°C to 105°C); DatasheetVersion: revJ, Aug-2010; PackageVersion: revA, Jul-2007; PackageReference: SO32; PackageDescription: 32-Pin Plastic Gull Wing Small Outline Package (SOIC) 0.3" Wide, 1.27 mm Pitch [T4]; Code_IPC: IPC-7353; ComponentLink1Description: Manufacturer URL; ComponentLink1URL: http://www.atmel.com/; ComponentLink2Description: AT90PWM2/2B/3/3B Datasheet; ComponentLink2URL: http://www.atmel.com/dyn/resources/prod_documents/doc4317.pdf; ComponentLink3Description: AT90PWM2/2B/3/3B Summary; ComponentLink3URL: http://www.atmel.com/dyn/resources/prod_documents/4317S.pdf
footprint SO32_N (SOIC, 32-Leads, Body 20.8x7.5mm, Pitch 1.27mm, IPC Medium Density)
footprint SO32_L (SOIC, 32-Leads, Body 20.8x7.5mm, Pitch 1.27mm, IPC High Density)
footprint SO32_M (SOIC, 32-Leads, Body 20.8x7.5mm, Pitch 1.27mm, IPC Low Density)
pins: 1 PD0 (PSCOUT00/XCK/SS_A) (io), 2 PC0 (INT3/PSCOUT10) (io), 3 PE0 (RESET/OCD) (io), 4 PD1 (PSCIN0/CLKO) (io), 5 PD2 (PSCIN2/OC1A/MISO_A) (io), 6 PD3 (TXD/DALI/OC0A/~{SS}/MOSI_A) (io), 7 PC1 (PSCIN1/OC1B) (io), 8 VCC (power), 9 GND (power), 10 PC2 (T0/PSCOUT22) (io), 11 PC3 (T1/PSCOUT23) (io), 12 PB0 (MISO/PSCOUT20) (io), 13 PB1 (MOSI/PSCOUT21) (io), 14 PE1 (OC0B/XTAL1) (io), 15 PE2 (ADC0/XTAL2) (io), 16 PD4 (ADC1/RXD/DALI/ICP1A/SCK_A) (io), 17 PD5 (ADC2/ACMP2) (io), 18 PD6 (ADC3/ACMPM/INT0) (io), 19 PD7 (ACMP0) (io), 20 PB2 (ADC5/INT1) (io), 21 PC4 (ADC8/AMP1-) (io), 22 PC5 (ADC9/AMP1+) (io), 23 AVCC (power), 24 GND (power), 25 AREF (power), 26 PC6 (ADC10/ACMP1) (io), 27 PB3 (AMP0-) (io), 28 PB4 (AMP0+) (io), 29 PC7 (D2A) (io), 30 PB5 (ADC6/INT2) (io), 31 PB6 (ADC7/PSCOUT11/ICP1B) (io), 32 PB7(ADC4/PSCOUT01/SCK) (io)

## AT90PWM81-16ME
designator U?
8-bit AVR Microcontroller, 2.7-5.5V, 8KB Flash, 512 Bytes EEPROM, 256 Bytes SRAM, 32-pin QFN, Engineering Sample, Pb-Free; DatasheetVersion: revP, Aug-2010; PackageVersion: 2007; PackageReference: 32-QFN; PackageDescription: 32-Pin Quad Flat No-Lead, 5 x 5 mm Body,  0.5 mm Pitch; ComponentLink1Description: Manufacturer URL; ComponentLink1URL: http://www.atmel.com/; ComponentLink2Description: AT90PWM81 Datasheet; ComponentLink2URL: http://www.atmel.com/dyn/resources/prod_documents/doc7734.pdf
footprint 32-QFN_N (QFN, 32-Leads, Body 5x5mm, Pitch 0.5mm, Thermal Pad 3.7x3.7mm, IPC Medium Density)
footprint 32-QFN_L (QFN, 32-Leads, Body 5x5mm, Pitch 0.5mm, Thermal Pad 3.7x3.7mm, IPC High Density)
footprint 32-QFN_M (QFN, 32-Leads, Body 5x5mm, Pitch 0.5mm, Thermal Pad 3.7x3.7mm, IPC Low Density)
pins: 1 NC, 2 PD0 (ACMP3_OUT_A/~{SS}/CLKO) (io), 3 PB1 (PSCOUT20) (io), 4 PB2 (INT0/PSCOUT21) (io), 5 VCC (power), 6 GND (power), 7 PE1 (ACPM1_OUT/PSCIN2/XTAL1) (io), 8 NC, 9 NC, 10 PE2 (PSCINr/ACMP1M/XTAL2) (io), 11 PD1 (PSCOUTR0/PSCINrB) (io), 12 PD2 (ADC0/ACMP1) (io), 13 PD3 (ADC1/ACMP2_OUT) (io), 14 PB3 (ADC2/ACMP2M/PSCOUTR1) (io), 15 PB4 (ADC3/ACMPM/MOSI) (io), 16 NC, 17 NC, 18 PD4 (PSCIN2A/ACMP3M/ADC4) (io), 19 PB5 (ADC5/INT1/SCK/ACMP2) (io), 20 AVCC (power), 21 AGND (power), 22 PE3/AREF/ADC6 (io), 23 PD5 (AMP0-/ADC7) (io), 24 NC, 25 NC, 26 PD6 (AMP0+) (io), 27 PB6 (ADC8/MISO/ACMP3) (io), 28 PD7 (ADC10/PSCINrA) (io), 29 PB7 (ADC9/PSCOUT22/ICP1) (io), 30 PB0 (PSCOUT23/T1/ACMP3_OUT) (io), 31 PE0 (~{RESET}/OCD/INT2) (io), 32 NC, 33 DAP (power)

## AT90PWM81-16MF
designator U?
8-bit AVR Microcontroller, 2.7-5.5V, 8KB Flash, 512 Bytes EEPROM, 256 Bytes SRAM, 32-pin QFN, Extended Grade (-40°C to 125°C), Pb-Free; DatasheetVersion: revP, Aug-2010; PackageVersion: 2007; PackageReference: 32-QFN; PackageDescription: 32-Pin Quad Flat No-Lead, 5 x 5 mm Body,  0.5 mm Pitch; ComponentLink1Description: Manufacturer URL; ComponentLink1URL: http://www.atmel.com/; ComponentLink2Description: AT90PWM81 Datasheet; ComponentLink2URL: http://www.atmel.com/dyn/resources/prod_documents/doc7734.pdf
footprint 32-QFN_N (QFN, 32-Leads, Body 5x5mm, Pitch 0.5mm, Thermal Pad 3.7x3.7mm, IPC Medium Density)
footprint 32-QFN_L (QFN, 32-Leads, Body 5x5mm, Pitch 0.5mm, Thermal Pad 3.7x3.7mm, IPC High Density)
footprint 32-QFN_M (QFN, 32-Leads, Body 5x5mm, Pitch 0.5mm, Thermal Pad 3.7x3.7mm, IPC Low Density)
pins: 1 NC, 2 PD0 (ACMP3_OUT_A/~{SS}/CLKO) (io), 3 PB1 (PSCOUT20) (io), 4 PB2 (INT0/PSCOUT21) (io), 5 VCC (power), 6 GND (power), 7 PE1 (ACPM1_OUT/PSCIN2/XTAL1) (io), 8 NC, 9 NC, 10 PE2 (PSCINr/ACMP1M/XTAL2) (io), 11 PD1 (PSCOUTR0/PSCINrB) (io), 12 PD2 (ADC0/ACMP1) (io), 13 PD3 (ADC1/ACMP2_OUT) (io), 14 PB3 (ADC2/ACMP2M/PSCOUTR1) (io), 15 PB4 (ADC3/ACMPM/MOSI) (io), 16 NC, 17 NC, 18 PD4 (PSCIN2A/ACMP3M/ADC4) (io), 19 PB5 (ADC5/INT1/SCK/ACMP2) (io), 20 AVCC (power), 21 AGND (power), 22 PE3/AREF/ADC6 (io), 23 PD5 (AMP0-/ADC7) (io), 24 NC, 25 NC, 26 PD6 (AMP0+) (io), 27 PB6 (ADC8/MISO/ACMP3) (io), 28 PD7 (ADC10/PSCINrA) (io), 29 PB7 (ADC9/PSCOUT22/ICP1) (io), 30 PB0 (PSCOUT23/T1/ACMP3_OUT) (io), 31 PE0 (~{RESET}/OCD/INT2) (io), 32 NC, 33 DAP (power)

## AT90PWM81-16MN
designator U?
8-bit AVR Microcontroller, 2.7-5.5V, 8KB Flash, 512 Bytes EEPROM, 256 Bytes SRAM, 32-pin QFN, Extended Grade (-40°C to 105°C), Pb-Free; DatasheetVersion: revP, Aug-2010; PackageVersion: 2007; PackageReference: 32-QFN; PackageDescription: 32-Pin Quad Flat No-Lead, 5 x 5 mm Body,  0.5 mm Pitch; ComponentLink1Description: Manufacturer URL; ComponentLink1URL: http://www.atmel.com/; ComponentLink2Description: AT90PWM81 Datasheet; ComponentLink2URL: http://www.atmel.com/dyn/resources/prod_documents/doc7734.pdf
footprint 32-QFN_N (QFN, 32-Leads, Body 5x5mm, Pitch 0.5mm, Thermal Pad 3.7x3.7mm, IPC Medium Density)
footprint 32-QFN_L (QFN, 32-Leads, Body 5x5mm, Pitch 0.5mm, Thermal Pad 3.7x3.7mm, IPC High Density)
footprint 32-QFN_M (QFN, 32-Leads, Body 5x5mm, Pitch 0.5mm, Thermal Pad 3.7x3.7mm, IPC Low Density)
pins: 1 NC, 2 PD0 (ACMP3_OUT_A/~{SS}/CLKO) (io), 3 PB1 (PSCOUT20) (io), 4 PB2 (INT0/PSCOUT21) (io), 5 VCC (power), 6 GND (power), 7 PE1 (ACPM1_OUT/PSCIN2/XTAL1) (io), 8 NC, 9 NC, 10 PE2 (PSCINr/ACMP1M/XTAL2) (io), 11 PD1 (PSCOUTR0/PSCINrB) (io), 12 PD2 (ADC0/ACMP1) (io), 13 PD3 (ADC1/ACMP2_OUT) (io), 14 PB3 (ADC2/ACMP2M/PSCOUTR1) (io), 15 PB4 (ADC3/ACMPM/MOSI) (io), 16 NC, 17 NC, 18 PD4 (PSCIN2A/ACMP3M/ADC4) (io), 19 PB5 (ADC5/INT1/SCK/ACMP2) (io), 20 AVCC (power), 21 AGND (power), 22 PE3/AREF/ADC6 (io), 23 PD5 (AMP0-/ADC7) (io), 24 NC, 25 NC, 26 PD6 (AMP0+) (io), 27 PB6 (ADC8/MISO/ACMP3) (io), 28 PD7 (ADC10/PSCINrA) (io), 29 PB7 (ADC9/PSCOUT22/ICP1) (io), 30 PB0 (PSCOUT23/T1/ACMP3_OUT) (io), 31 PE0 (~{RESET}/OCD/INT2) (io), 32 NC, 33 DAP (power)

## AT90PWM81-16SE
designator U?
8-bit AVR Microcontroller, 2.7-5.5V, 8KB Flash, 512 Bytes EEPROM, 256 Bytes SRAM, 20-pin SOIC (TG), Engineering Sample, Pb-Free; DatasheetVersion: revP, Aug-2010; PackageVersion: 2009; PackageReference: 20TG; PackageDescription: 20-pin, 0.300” Wide, Plastic Gull-Wing Small Outline (EIAJ SOIC); Code_JEDEC: MS-013-AC; Code_IPC: SOIC127P1030-20; ComponentLink1Description: Manufacturer URL; ComponentLink1URL: http://www.atmel.com/; ComponentLink2Description: AT90PWM81 Datasheet; ComponentLink2URL: http://www.atmel.com/dyn/resources/prod_documents/doc7734.pdf
footprint 20TG_N (SOIC, 20-Leads, Body 12.8x7.5mm, Pitch 1.27mm, IPC Medium Density)
footprint 20TG_L (SOIC, 20-Leads, Body 12.8x7.5mm, Pitch 1.27mm, IPC High Density)
footprint 20TG_M (SOIC, 20-Leads, Body 12.8x7.5mm, Pitch 1.27mm, IPC Low Density)
pins: 1 PB0 (PSCOUT23/T1/ACMP3_OUT) (io), 2 PE0 (~{RESET}/OCD/INT2) (io), 3 PB1 (PSCOUT20) (io), 4 PB2 (INT0/PSCOUT21) (io), 5 VCC (power), 6 GND (power), 7 PE1 (ACPM1_OUT/PSCIN2/XTAL1) (io), 8 PE2 (PSCINr/ACMP1M/XTAL2) (io), 9 PD1 (PSCOUTR0/PSCINrB) (io), 10 PD2 (ADC0/ACMP1) (io), 11 PB3 (ADC2/ACMP2M/PSCOUTR1) (io), 12 PB4 (ADC3/ACMPM/MOSI) (io), 13 PB5 (ADC5/INT1/SCK/ACMP2) (io), 14 AVCC (power), 15 AGND (power), 16 AREF/ADC6 (io), 17 PD5 (AMP0-/ADC7) (io), 18 PD6 (AMP0+) (io), 19 PB6 (ADC8/MISO/ACMP3) (io), 20 PB7 (ADC9/PSCOUT22/ICP1) (io)

## AT90PWM81-16SF
designator U?
8-bit AVR Microcontroller, 2.7-5.5V, 8KB Flash, 512 Bytes EEPROM, 256 Bytes SRAM, 20-pin SOIC (TG), Extended Grade (-40°C to 125°C), Pb-Free; DatasheetVersion: revP, Aug-2010; PackageVersion: 2009; PackageReference: 20TG; PackageDescription: 20-pin, 0.300” Wide, Plastic Gull-Wing Small Outline (EIAJ SOIC); Code_JEDEC: MS-013-AC; Code_IPC: SOIC127P1030-20; ComponentLink1Description: Manufacturer URL; ComponentLink1URL: http://www.atmel.com/; ComponentLink2Description: AT90PWM81 Datasheet; ComponentLink2URL: http://www.atmel.com/dyn/resources/prod_documents/doc7734.pdf
footprint 20TG_N (SOIC, 20-Leads, Body 12.8x7.5mm, Pitch 1.27mm, IPC Medium Density)
footprint 20TG_L (SOIC, 20-Leads, Body 12.8x7.5mm, Pitch 1.27mm, IPC High Density)
footprint 20TG_M (SOIC, 20-Leads, Body 12.8x7.5mm, Pitch 1.27mm, IPC Low Density)
pins: 1 PB0 (PSCOUT23/T1/ACMP3_OUT) (io), 2 PE0 (~{RESET}/OCD/INT2) (io), 3 PB1 (PSCOUT20) (io), 4 PB2 (INT0/PSCOUT21) (io), 5 VCC (power), 6 GND (power), 7 PE1 (ACPM1_OUT/PSCIN2/XTAL1) (io), 8 PE2 (PSCINr/ACMP1M/XTAL2) (io), 9 PD1 (PSCOUTR0/PSCINrB) (io), 10 PD2 (ADC0/ACMP1) (io), 11 PB3 (ADC2/ACMP2M/PSCOUTR1) (io), 12 PB4 (ADC3/ACMPM/MOSI) (io), 13 PB5 (ADC5/INT1/SCK/ACMP2) (io), 14 AVCC (power), 15 AGND (power), 16 AREF/ADC6 (io), 17 PD5 (AMP0-/ADC7) (io), 18 PD6 (AMP0+) (io), 19 PB6 (ADC8/MISO/ACMP3) (io), 20 PB7 (ADC9/PSCOUT22/ICP1) (io)

## AT90PWM81-16SN
designator U?
8-bit AVR Microcontroller, 2.7-5.5V, 8KB Flash, 512 Bytes EEPROM, 256 Bytes SRAM, 20-pin SOIC (TG), Extended Grade (-40°C to 105°C), Pb-Free; DatasheetVersion: revP, Aug-2010; PackageVersion: 2009; PackageReference: 20TG; PackageDescription: 20-pin, 0.300” Wide, Plastic Gull-Wing Small Outline (EIAJ SOIC); Code_JEDEC: MS-013-AC; Code_IPC: SOIC127P1030-20; ComponentLink1Description: Manufacturer URL; ComponentLink1URL: http://www.atmel.com/; ComponentLink2Description: AT90PWM81 Datasheet; ComponentLink2URL: http://www.atmel.com/dyn/resources/prod_documents/doc7734.pdf
footprint 20TG_N (SOIC, 20-Leads, Body 12.8x7.5mm, Pitch 1.27mm, IPC Medium Density)
footprint 20TG_L (SOIC, 20-Leads, Body 12.8x7.5mm, Pitch 1.27mm, IPC High Density)
footprint 20TG_M (SOIC, 20-Leads, Body 12.8x7.5mm, Pitch 1.27mm, IPC Low Density)
pins: 1 PB0 (PSCOUT23/T1/ACMP3_OUT) (io), 2 PE0 (~{RESET}/OCD/INT2) (io), 3 PB1 (PSCOUT20) (io), 4 PB2 (INT0/PSCOUT21) (io), 5 VCC (power), 6 GND (power), 7 PE1 (ACPM1_OUT/PSCIN2/XTAL1) (io), 8 PE2 (PSCINr/ACMP1M/XTAL2) (io), 9 PD1 (PSCOUTR0/PSCINrB) (io), 10 PD2 (ADC0/ACMP1) (io), 11 PB3 (ADC2/ACMP2M/PSCOUTR1) (io), 12 PB4 (ADC3/ACMPM/MOSI) (io), 13 PB5 (ADC5/INT1/SCK/ACMP2) (io), 14 AVCC (power), 15 AGND (power), 16 AREF/ADC6 (io), 17 PD5 (AMP0-/ADC7) (io), 18 PD6 (AMP0+) (io), 19 PB6 (ADC8/MISO/ACMP3) (io), 20 PB7 (ADC9/PSCOUT22/ICP1) (io)

## AT90PWM216-16SE
designator U?
8-bit AVR Microcontroller, 2.7-5.5V, 16KB Flash, 512 Bytes EEPROM, 1KB SRAM, 24-pin SOIC (TD), Engineering Sample, Pb-Free; DatasheetVersion: revE, Aug-2010; PackageVersion: revA, Jul-2007; PackageReference: SO24; PackageDescription: 24-Pin Plastic Gull Wing Small Outline Package (SOIC) 0.3" Wide, 1.27 mm Pitch [TD]; ComponentLink1Description: Manufacturer URL; ComponentLink1URL: http://www.atmel.com/; ComponentLink2Description: AT90PWM216/316 Datasheet; ComponentLink2URL: http://www.atmel.com/dyn/resources/prod_documents/doc7710.pdf; ComponentLink3Description: AT90PWM216/316 Summary; ComponentLink3URL: http://www.atmel.com/dyn/resources/prod_documents/7710S.pdf
footprint SO24_N (SOIC, 24-Leads, Body 15.4x7.5mm, Pitch 1.27mm, IPC Medium Density)
footprint SO24_L (SOIC, 24-Leads, Body 15.4x7.5mm, Pitch 1.27mm, IPC High Density)
footprint SO24_M (SOIC, 24-Leads, Body 15.4x7.5mm, Pitch 1.27mm, IPC Low Density)
pins: 1 PD0 (PSCOUT00/XCK/SS_A) (io), 2 PE0 (~{RESET}/OCD) (io), 3 PD1 (PSCIN0/CLKO) (io), 4 PD2 (PSCIN2/OC1A/MISO_A) (io), 5 PD3 (TXD/DALI/OC0A/~{SS}/MOSI_A) (io), 6 VCC (power), 7 GND (power), 8 PB0 (MISO/PSCOUT20) (io), 9 PB1 (MOSI/PSCOUT21) (io), 10 PE1 (OC0B/XTAL1) (io), 11 PE2 (ADC0/XTAL2) (io), 12 PD4 (ADC1/RXD/DALI/ICP1A/SCK_A) (io), 13 PD5 (ADC2/ACMP2) (io), 14 PD6 (ADC3/ACMPM/INT0) (io), 15 PD7 (ACMP0) (io), 16 PB2 (ADC5/INT1) (io), 17 AVCC (power), 18 GND (power), 19 AREF (power), 20 PB3 (AMP0-) (io), 21 PB4 (AMP0+) (io), 22 PB5 (ADC6/INT2) (io), 23 PB6 (ADC7/ICP1B) (io), 24 PB7 (ADC4/PSCOUT01/SCK) (io)

## AT90PWM216-16SU
designator U?
8-bit AVR Microcontroller, 2.7-5.5V, 16KB Flash, 512 Bytes EEPROM, 1KB SRAM, 24-pin SOIC (TD), Extended Grade (-40°C to 105°C), Pb-Free; DatasheetVersion: revE, Aug-2010; PackageVersion: revA, Jul-2007; PackageReference: SO24; PackageDescription: 24-Pin Plastic Gull Wing Small Outline Package (SOIC) 0.3" Wide, 1.27 mm Pitch [TD]; ComponentLink1Description: Manufacturer URL; ComponentLink1URL: http://www.atmel.com/; ComponentLink2Description: AT90PWM216/316 Datasheet; ComponentLink2URL: http://www.atmel.com/dyn/resources/prod_documents/doc7710.pdf; ComponentLink3Description: AT90PWM216/316 Summary; ComponentLink3URL: http://www.atmel.com/dyn/resources/prod_documents/7710S.pdf
footprint SO24_N (SOIC, 24-Leads, Body 15.4x7.5mm, Pitch 1.27mm, IPC Medium Density)
footprint SO24_L (SOIC, 24-Leads, Body 15.4x7.5mm, Pitch 1.27mm, IPC High Density)
footprint SO24_M (SOIC, 24-Leads, Body 15.4x7.5mm, Pitch 1.27mm, IPC Low Density)
pins: 1 PD0 (PSCOUT00/XCK/SS_A) (io), 2 PE0 (~{RESET}/OCD) (io), 3 PD1 (PSCIN0/CLKO) (io), 4 PD2 (PSCIN2/OC1A/MISO_A) (io), 5 PD3 (TXD/DALI/OC0A/~{SS}/MOSI_A) (io), 6 VCC (power), 7 GND (power), 8 PB0 (MISO/PSCOUT20) (io), 9 PB1 (MOSI/PSCOUT21) (io), 10 PE1 (OC0B/XTAL1) (io), 11 PE2 (ADC0/XTAL2) (io), 12 PD4 (ADC1/RXD/DALI/ICP1A/SCK_A) (io), 13 PD5 (ADC2/ACMP2) (io), 14 PD6 (ADC3/ACMPM/INT0) (io), 15 PD7 (ACMP0) (io), 16 PB2 (ADC5/INT1) (io), 17 AVCC (power), 18 GND (power), 19 AREF (power), 20 PB3 (AMP0-) (io), 21 PB4 (AMP0+) (io), 22 PB5 (ADC6/INT2) (io), 23 PB6 (ADC7/ICP1B) (io), 24 PB7 (ADC4/PSCOUT01/SCK) (io)

## AT90PWM316-16ME
designator U?
8-bit AVR Microcontroller, 2.7-5.5V, 16KB Flash, 512 Bytes EEPROM, 1KB SRAM, 32-pin QFN, Engineering Sample, Pb-Free; DatasheetVersion: revE, Aug-2010; PackageVersion: 2011; PackageReference: QFN32; PackageDescription: 32-Pin Quad Flat No-Lead, 7 x 7 mm Body, 0.65 mm Pitch; Code_JEDEC: MO-220VKKC; Code_IPC: QFN65P700X700-32V; ComponentLink1Description: Manufacturer URL; ComponentLink1URL: http://www.atmel.com/; ComponentLink2Description: AT90PWM216/316 Datasheet; ComponentLink2URL: http://www.atmel.com/dyn/resources/prod_documents/doc7710.pdf; ComponentLink3Description: AT90PWM216/316 Summary; ComponentLink3URL: http://www.atmel.com/dyn/resources/prod_documents/7710S.pdf
footprint QFN32_N (QFN, 32-Leads, Body 7x7mm, Pitch 0.65mm, Thermal Pad 5.3x5.3mm, IPC Medium Density)
footprint QFN32_L (QFN, 32-Leads, Body 7x7mm, Pitch 0.65mm, Thermal Pad 5.3x5.3mm, IPC High Density)
footprint QFN32_M (QFN, 32-Leads, Body 7x7mm, Pitch 0.65mm, Thermal Pad 5.3x5.3mm, IPC Low Density)
pins: 1 PD2 (PSCIN2/OC1A/MISO_A) (io), 2 PD3 (TXD/DALI/OC0A/~{SS}/MOSI_A) (io), 3 PC1 (PSCIN1/OC1B) (io), 4 VCC (power), 5 GND (power), 6 PC2 (T0/PSCOUT22) (io), 7 PC3 (T1/PSCOUT23) (io), 8 PB0 (MISO/PSCOUT20) (io), 9 PB1 (MOSI/PSCOUT21) (io), 10 PE1 (OC0B/XTAL1) (io), 11 PE2 (ADC0/XTAL2) (io), 12 PD4 (ADC1/RXD/DALI/ICP1_A/SCK_A) (io), 13 PD5 (ADC2/ACMP2) (io), 14 PD6 (ADC3/ACMPM/INT0) (io), 15 PD7 (ACMP0) (io), 16 PB2 (ADC5/INT1) (io), 17 PC4 (ADC8/AMP1-) (io), 18 PC5 (ADC9/AMP1+) (io), 19 AVCC (power), 20 AGND (power), 21 AREF (power), 22 PC6 (ADC10/ACMP1) (io), 23 PB3 (AMP0-) (io), 24 PB4 (AMP0+) (io), 25 PC7 (D2A) (io), 26 PB5 (ADC6/INT2) (io), 27 PB6 (ADC7/PSCOUT11/ICP1B) (io), 28 PB7 (ADC4/PSCOUT01/SCK) (io), 29 PD0 (PSCOUT00/XCK/SS_A) (io), 30 PC0(INT3/PSCOUT10) (io), 31 PE0 (~{RESET}/OCD) (io), 32 PD1(PSCIN0/CLKO) (io), 33 DAP (power)

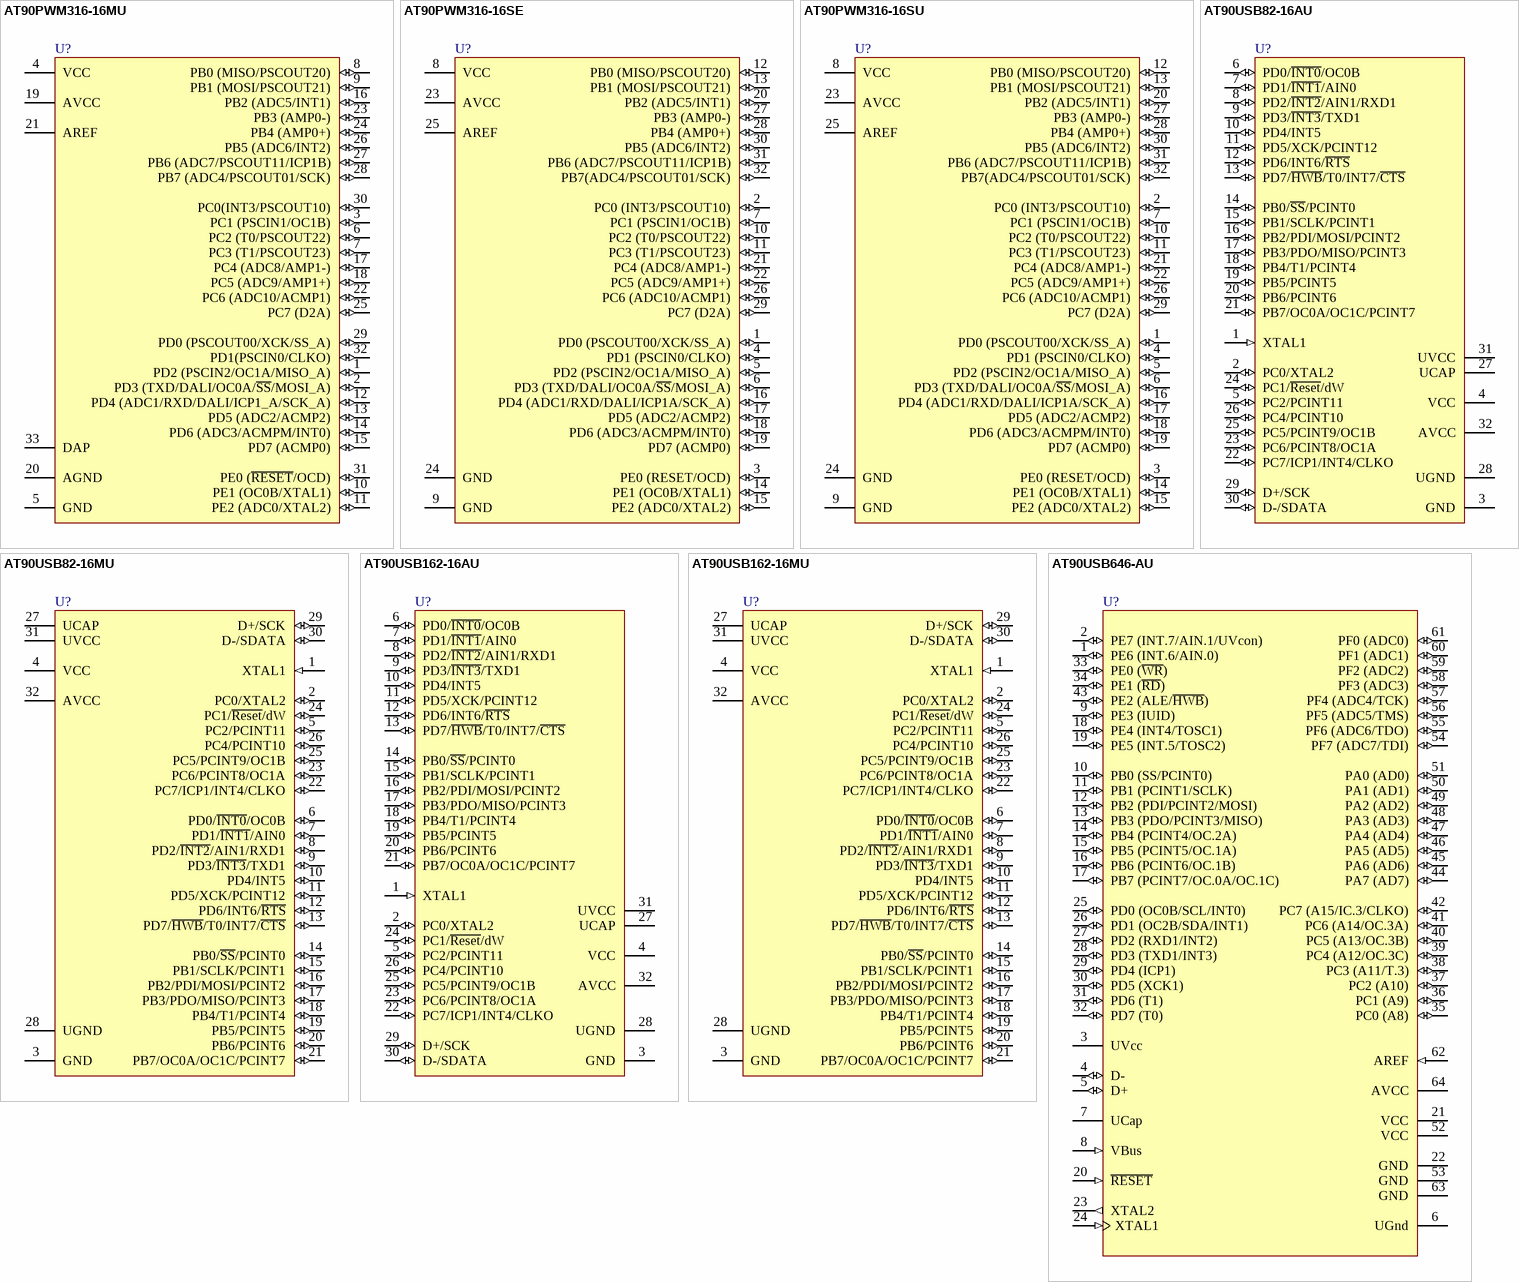
[diagram p2: symbols AT90PWM316-16MU to AT90USB646-AU]

## AT90PWM316-16MU
designator U?
8-bit AVR Microcontroller, 2.7-5.5V, 16KB Flash, 512 Bytes EEPROM, 1KB SRAM, 32-pin QFN, Extended Grade (-40°C to 105°C), Pb-Free; DatasheetVersion: revE, Aug-2010; PackageVersion: 2011; PackageReference: QFN32; PackageDescription: 32-Pin Quad Flat No-Lead, 7 x 7 mm Body, 0.65 mm Pitch; Code_JEDEC: MO-220VKKC; Code_IPC: QFN65P700X700-32V; ComponentLink1Description: Manufacturer URL; ComponentLink1URL: http://www.atmel.com/; ComponentLink2Description: AT90PWM216/316 Datasheet; ComponentLink2URL: http://www.atmel.com/dyn/resources/prod_documents/doc7710.pdf; ComponentLink3Description: AT90PWM216/316 Summary; ComponentLink3URL: http://www.atmel.com/dyn/resources/prod_documents/7710S.pdf
footprint QFN32_N (QFN, 32-Leads, Body 7x7mm, Pitch 0.65mm, Thermal Pad 5.3x5.3mm, IPC Medium Density)
footprint QFN32_L (QFN, 32-Leads, Body 7x7mm, Pitch 0.65mm, Thermal Pad 5.3x5.3mm, IPC High Density)
footprint QFN32_M (QFN, 32-Leads, Body 7x7mm, Pitch 0.65mm, Thermal Pad 5.3x5.3mm, IPC Low Density)
pins: 1 PD2 (PSCIN2/OC1A/MISO_A) (io), 2 PD3 (TXD/DALI/OC0A/~{SS}/MOSI_A) (io), 3 PC1 (PSCIN1/OC1B) (io), 4 VCC (power), 5 GND (power), 6 PC2 (T0/PSCOUT22) (io), 7 PC3 (T1/PSCOUT23) (io), 8 PB0 (MISO/PSCOUT20) (io), 9 PB1 (MOSI/PSCOUT21) (io), 10 PE1 (OC0B/XTAL1) (io), 11 PE2 (ADC0/XTAL2) (io), 12 PD4 (ADC1/RXD/DALI/ICP1_A/SCK_A) (io), 13 PD5 (ADC2/ACMP2) (io), 14 PD6 (ADC3/ACMPM/INT0) (io), 15 PD7 (ACMP0) (io), 16 PB2 (ADC5/INT1) (io), 17 PC4 (ADC8/AMP1-) (io), 18 PC5 (ADC9/AMP1+) (io), 19 AVCC (power), 20 AGND (power), 21 AREF (power), 22 PC6 (ADC10/ACMP1) (io), 23 PB3 (AMP0-) (io), 24 PB4 (AMP0+) (io), 25 PC7 (D2A) (io), 26 PB5 (ADC6/INT2) (io), 27 PB6 (ADC7/PSCOUT11/ICP1B) (io), 28 PB7 (ADC4/PSCOUT01/SCK) (io), 29 PD0 (PSCOUT00/XCK/SS_A) (io), 30 PC0(INT3/PSCOUT10) (io), 31 PE0 (~{RESET}/OCD) (io), 32 PD1(PSCIN0/CLKO) (io), 33 DAP (power)

## AT90PWM316-16SE
designator U?
8-bit AVR Microcontroller, 2.7-5.5V, 16KB Flash, 512 Bytes EEPROM, 1KB SRAM, 32-pin SOIC (T4), Engineering Sample, Pb-Free; DatasheetVersion: revE, Aug-2010; PackageVersion: revA, Jul-2007; PackageReference: SO32; PackageDescription: 32-Pin Plastic Gull Wing Small Outline Package (SOIC) 0.3" Wide, 1.27 mm Pitch [T4]; Code_IPC: IPC-7353; ComponentLink1Description: Manufacturer URL; ComponentLink1URL: http://www.atmel.com/; ComponentLink2Description: AT90PWM216/316 Datasheet; ComponentLink2URL: http://www.atmel.com/dyn/resources/prod_documents/doc7710.pdf; ComponentLink3Description: AT90PWM216/316 Summary; ComponentLink3URL: http://www.atmel.com/dyn/resources/prod_documents/7710S.pdf
footprint SO32_N (SOIC, 32-Leads, Body 20.8x7.5mm, Pitch 1.27mm, IPC Medium Density)
footprint SO32_L (SOIC, 32-Leads, Body 20.8x7.5mm, Pitch 1.27mm, IPC High Density)
footprint SO32_M (SOIC, 32-Leads, Body 20.8x7.5mm, Pitch 1.27mm, IPC Low Density)
pins: 1 PD0 (PSCOUT00/XCK/SS_A) (io), 2 PC0 (INT3/PSCOUT10) (io), 3 PE0 (RESET/OCD) (io), 4 PD1 (PSCIN0/CLKO) (io), 5 PD2 (PSCIN2/OC1A/MISO_A) (io), 6 PD3 (TXD/DALI/OC0A/~{SS}/MOSI_A) (io), 7 PC1 (PSCIN1/OC1B) (io), 8 VCC (power), 9 GND (power), 10 PC2 (T0/PSCOUT22) (io), 11 PC3 (T1/PSCOUT23) (io), 12 PB0 (MISO/PSCOUT20) (io), 13 PB1 (MOSI/PSCOUT21) (io), 14 PE1 (OC0B/XTAL1) (io), 15 PE2 (ADC0/XTAL2) (io), 16 PD4 (ADC1/RXD/DALI/ICP1A/SCK_A) (io), 17 PD5 (ADC2/ACMP2) (io), 18 PD6 (ADC3/ACMPM/INT0) (io), 19 PD7 (ACMP0) (io), 20 PB2 (ADC5/INT1) (io), 21 PC4 (ADC8/AMP1-) (io), 22 PC5 (ADC9/AMP1+) (io), 23 AVCC (power), 24 GND (power), 25 AREF (power), 26 PC6 (ADC10/ACMP1) (io), 27 PB3 (AMP0-) (io), 28 PB4 (AMP0+) (io), 29 PC7 (D2A) (io), 30 PB5 (ADC6/INT2) (io), 31 PB6 (ADC7/PSCOUT11/ICP1B) (io), 32 PB7(ADC4/PSCOUT01/SCK) (io)

## AT90PWM316-16SU
designator U?
8-bit AVR Microcontroller, 2.7-5.5V, 16KB Flash, 512 Bytes EEPROM, 1KB SRAM, 32-pin SOIC (T4), Extended Grade (-40°C to 105°C), Pb-Free; DatasheetVersion: revE, Aug-2010; PackageVersion: revA, Jul-2007; PackageReference: SO32; PackageDescription: 32-Pin Plastic Gull Wing Small Outline Package (SOIC) 0.3" Wide, 1.27 mm Pitch [T4]; Code_IPC: IPC-7353; ComponentLink1Description: Manufacturer URL; ComponentLink1URL: http://www.atmel.com/; ComponentLink2Description: AT90PWM216/316 Datasheet; ComponentLink2URL: http://www.atmel.com/dyn/resources/prod_documents/doc7710.pdf; ComponentLink3Description: AT90PWM216/316 Summary; ComponentLink3URL: http://www.atmel.com/dyn/resources/prod_documents/7710S.pdf
footprint SO32_N (SOIC, 32-Leads, Body 20.8x7.5mm, Pitch 1.27mm, IPC Medium Density)
footprint SO32_L (SOIC, 32-Leads, Body 20.8x7.5mm, Pitch 1.27mm, IPC High Density)
footprint SO32_M (SOIC, 32-Leads, Body 20.8x7.5mm, Pitch 1.27mm, IPC Low Density)
pins: 1 PD0 (PSCOUT00/XCK/SS_A) (io), 2 PC0 (INT3/PSCOUT10) (io), 3 PE0 (RESET/OCD) (io), 4 PD1 (PSCIN0/CLKO) (io), 5 PD2 (PSCIN2/OC1A/MISO_A) (io), 6 PD3 (TXD/DALI/OC0A/~{SS}/MOSI_A) (io), 7 PC1 (PSCIN1/OC1B) (io), 8 VCC (power), 9 GND (power), 10 PC2 (T0/PSCOUT22) (io), 11 PC3 (T1/PSCOUT23) (io), 12 PB0 (MISO/PSCOUT20) (io), 13 PB1 (MOSI/PSCOUT21) (io), 14 PE1 (OC0B/XTAL1) (io), 15 PE2 (ADC0/XTAL2) (io), 16 PD4 (ADC1/RXD/DALI/ICP1A/SCK_A) (io), 17 PD5 (ADC2/ACMP2) (io), 18 PD6 (ADC3/ACMPM/INT0) (io), 19 PD7 (ACMP0) (io), 20 PB2 (ADC5/INT1) (io), 21 PC4 (ADC8/AMP1-) (io), 22 PC5 (ADC9/AMP1+) (io), 23 AVCC (power), 24 GND (power), 25 AREF (power), 26 PC6 (ADC10/ACMP1) (io), 27 PB3 (AMP0-) (io), 28 PB4 (AMP0+) (io), 29 PC7 (D2A) (io), 30 PB5 (ADC6/INT2) (io), 31 PB6 (ADC7/PSCOUT11/ICP1B) (io), 32 PB7(ADC4/PSCOUT01/SCK) (io)

## AT90USB82-16AU
designator U?
8-bit AVR Microcontroller, 2.7-5.5V, 8KB Flash, 512 Bytes EEPROM, 512 Bytes SRAM, 32-pin TQFP, Industrial Grade (-40°C to 85°C); DatasheetVersion: revF, Nov-2010; PackageVersion: revB, Jul-2007; PackageReference: 32MA; PackageDescription: 32-Lead Thin Profile Plastic Quad Flatpack (TQFP) - 7x7x1mm Body,  0.8 mm Pitch; ComponentLink1Description: Manufacturer URL; ComponentLink1URL: http://www.atmel.com/; ComponentLink2Description: AT90USB82/162 Datasheet; ComponentLink2URL: http://www.atmel.com/dyn/resources/prod_documents/doc7707.pdf; ComponentLink3Description: AT90USB82/162 Summary; ComponentLink3URL: http://www.atmel.com/dyn/resources/prod_documents/7707S.pdf
footprint 32MA_N (Thin QFP, 32-Leads, Body 7x7mm, Pitch 0.8mm, IPC Medium Density)
footprint 32MA_L (Thin QFP, 32-Leads, Body 7x7mm, Pitch 0.8mm, IPC High Density)
footprint 32MA_M (Thin QFP, 32-Leads, Body 7x7mm, Pitch 0.8mm, IPC Low Density)
pins: 1 XTAL1 (in), 2 PC0/XTAL2 (io), 3 GND (power), 4 VCC (power), 5 PC2/PCINT11 (io), 6 PD0/~{INT0}/OC0B (io), 7 PD1/~{INT1}/AIN0 (io), 8 PD2/~{INT2}/AIN1/RXD1 (io), 9 PD3/~{INT3}/TXD1 (io), 10 PD4/INT5 (io), 11 PD5/XCK/PCINT12 (io), 12 PD6/INT6/~{RTS} (io), 13 PD7/~{HWB}/T0/INT7/~{CTS} (io), 14 PB0/~{SS}/PCINT0 (io), 15 PB1/SCLK/PCINT1 (io), 16 PB2/PDI/MOSI/PCINT2 (io), 17 PB3/PDO/MISO/PCINT3 (io), 18 PB4/T1/PCINT4 (io), 19 PB5/PCINT5 (io), 20 PB6/PCINT6 (io), 21 PB7/OC0A/OC1C/PCINT7 (io), 22 PC7/ICP1/INT4/CLKO (io), 23 PC6/PCINT8/OC1A (io), 24 PC1/~{Reset}/dW (io), 25 PC5/PCINT9/OC1B (io), 26 PC4/PCINT10 (io), 27 UCAP (power), 28 UGND (power), 29 D+/SCK (io), 30 D-/SDATA (io), 31 UVCC (power), 32 AVCC (power)

## AT90USB82-16MU
designator U?
8-bit AVR Microcontroller, 2.7-5.5V, 8KB Flash, 512 Bytes EEPROM, 512 Bytes SRAM, 32-pin VQFN, Industrial Grade (-40°C to 85°C); DatasheetVersion: revF, Nov-2010; PackageVersion: revA, Oct-2008; PackageReference: 32PG; PackageDescription: 32-Pin Quad Flat No-Lead (QFN) Sawn,  5 x 5 x 1.0 mm Body, Pitch 0.50 mm, 3.60mm Exposed Pad; Code_JEDEC: MO-220WHHD-2; ComponentLink1Description: Manufacturer URL; ComponentLink1URL: http://www.atmel.com/; ComponentLink2Description: AT90USB82/162 Datasheet; ComponentLink2URL: http://www.atmel.com/dyn/resources/prod_documents/doc7707.pdf; ComponentLink3Description: AT90USB82/162 Summary; ComponentLink3URL: http://www.atmel.com/dyn/resources/prod_documents/7707S.pdf
footprint 32PG_N (QFN, 32-Leads, Body 5x5mm, Pitch 0.5mm, Thermal Pad 3.7x3.7mm, IPC Medium Density)
footprint 32PG_L (QFN, 32-Leads, Body 5x5mm, Pitch 0.5mm, Thermal Pad 3.7x3.7mm, IPC High Density)
footprint 32PG_M (QFN, 32-Leads, Body 5x5mm, Pitch 0.5mm, Thermal Pad 3.7x3.7mm, IPC Low Density)
pins: 1 XTAL1 (in), 2 PC0/XTAL2 (io), 3 GND (power), 4 VCC (power), 5 PC2/PCINT11 (io), 6 PD0/~{INT0}/OC0B (io), 7 PD1/~{INT1}/AIN0 (io), 8 PD2/~{INT2}/AIN1/RXD1 (io), 9 PD3/~{INT3}/TXD1 (io), 10 PD4/INT5 (io), 11 PD5/XCK/PCINT12 (io), 12 PD6/INT6/~{RTS} (io), 13 PD7/~{HWB}/T0/INT7/~{CTS} (io), 14 PB0/~{SS}/PCINT0 (io), 15 PB1/SCLK/PCINT1 (io), 16 PB2/PDI/MOSI/PCINT2 (io), 17 PB3/PDO/MISO/PCINT3 (io), 18 PB4/T1/PCINT4 (io), 19 PB5/PCINT5 (io), 20 PB6/PCINT6 (io), 21 PB7/OC0A/OC1C/PCINT7 (io), 22 PC7/ICP1/INT4/CLKO (io), 23 PC6/PCINT8/OC1A (io), 24 PC1/~{Reset}/dW (io), 25 PC5/PCINT9/OC1B (io), 26 PC4/PCINT10 (io), 27 UCAP (power), 28 UGND (power), 29 D+/SCK (io), 30 D-/SDATA (io), 31 UVCC (power), 32 AVCC (power)

## AT90USB162-16AU
designator U?
8-bit AVR Microcontroller, 2.7-5.5V, 16KB Flash, 512 Bytes EEPROM, 512 Bytes SRAM, 32-pin TQFP, Industrial Grade (-40°C to 85°C); DatasheetVersion: revF, Nov-2010; PackageVersion: revB, Jul-2007; PackageReference: 32MA; PackageDescription: 32-Lead Thin Profile Plastic Quad Flatpack (TQFP) - 7x7x1mm Body,  0.8 mm Pitch; ComponentLink1Description: Manufacturer URL; ComponentLink1URL: http://www.atmel.com/; ComponentLink2Description: AT90USB82/162 Datasheet; ComponentLink2URL: http://www.atmel.com/dyn/resources/prod_documents/doc7707.pdf; ComponentLink3Description: AT90USB82/162 Summary; ComponentLink3URL: http://www.atmel.com/dyn/resources/prod_documents/7707S.pdf
footprint 32MA_N (Thin QFP, 32-Leads, Body 7x7mm, Pitch 0.8mm, IPC Medium Density)
footprint 32MA_L (Thin QFP, 32-Leads, Body 7x7mm, Pitch 0.8mm, IPC High Density)
footprint 32MA_M (Thin QFP, 32-Leads, Body 7x7mm, Pitch 0.8mm, IPC Low Density)
pins: 1 XTAL1 (in), 2 PC0/XTAL2 (io), 3 GND (power), 4 VCC (power), 5 PC2/PCINT11 (io), 6 PD0/~{INT0}/OC0B (io), 7 PD1/~{INT1}/AIN0 (io), 8 PD2/~{INT2}/AIN1/RXD1 (io), 9 PD3/~{INT3}/TXD1 (io), 10 PD4/INT5 (io), 11 PD5/XCK/PCINT12 (io), 12 PD6/INT6/~{RTS} (io), 13 PD7/~{HWB}/T0/INT7/~{CTS} (io), 14 PB0/~{SS}/PCINT0 (io), 15 PB1/SCLK/PCINT1 (io), 16 PB2/PDI/MOSI/PCINT2 (io), 17 PB3/PDO/MISO/PCINT3 (io), 18 PB4/T1/PCINT4 (io), 19 PB5/PCINT5 (io), 20 PB6/PCINT6 (io), 21 PB7/OC0A/OC1C/PCINT7 (io), 22 PC7/ICP1/INT4/CLKO (io), 23 PC6/PCINT8/OC1A (io), 24 PC1/~{Reset}/dW (io), 25 PC5/PCINT9/OC1B (io), 26 PC4/PCINT10 (io), 27 UCAP (power), 28 UGND (power), 29 D+/SCK (io), 30 D-/SDATA (io), 31 UVCC (power), 32 AVCC (power)